# EAGLE library part LM3485 (library ic-TI)
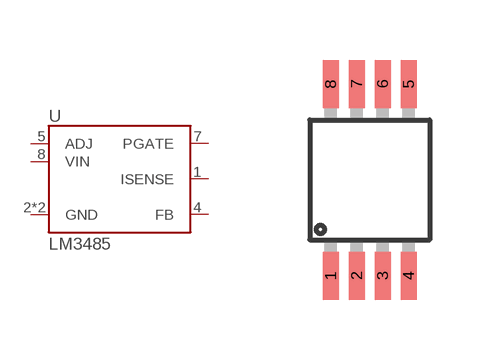
[diagram p50: symbol with the pads of MSOP8; footprint MSOP8]

Designator prefix U

## LM3485  [MSOP8]
1  ISENSE
2  GND
4  FB
5  ADJ
6  GND
7  PGATE
8  VIN

## Footprint MSOP8 (pad centres in mm)
smd 0.4 x 1.2: 1 -0.975,-2.4; 2 -0.325,-2.4; 3 0.325,-2.4; 4 0.975,-2.4; 5 0.975,2.4; 6 0.325,2.4; 7 -0.325,2.4; 8 -0.975,2.4